# Altium schematic symbol library TPS54062-MSOP8.SchLib: 1 symbol
Pins are listed as number, name and electrical type; pins without a type are passive.

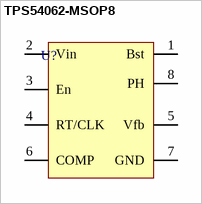
[diagram p0: symbol TPS54062-MSOP8]

## TPS54062-MSOP8
designator U?  (value not drawn)
pins: 1 Bst, 2 Vin, 3 En, 4 RT/CLK, 5 Vfb, 6 COMP, 7 GND, 8 PH